# Altium footprint library ESE228M050AN2AA.PcbLib: 1 footprints
Each footprint in its own frame and in the unit in brackets; x right, y up, seen from the top. Pads: shape width x height; smd on the part's side, far side on the other; paste and mask are expansions set on the pad; w line width, h text height; cw(c..) or ccw(c..) is an arc to the next point about the centre after c.
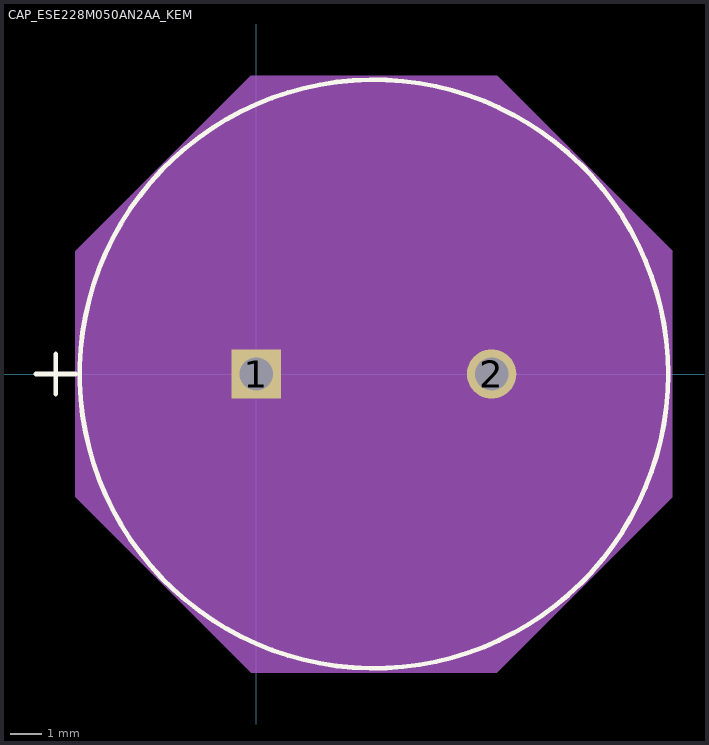
[diagram p0: the footprint, top view; thin cyan lines are the x and y axes]

## CAP_ESE228M050AN2AA_KEM [mil]
pads (2):
  rect 62x62 hole 42 paste-99999 mask+0: 1(0,0)
  round 62 hole 42 paste-99999 mask+0: 2(295.28,0)
Top Overlay:
  circle w6: c147.64,0 r369.17
  lines w6: -276.54,0 -226.54,0 ; -251.54,-25 -251.54,25
  text ".Designator" at 10.14,-25 h50
Mechanical 13:
  circle w1: c147.64,0 r364.17
  lines w1: -276.54,0 -226.54,0 ; -251.54,-25 -251.54,25
  text ".Designator" at 10.14,-25 h50
Mechanical 15:
  region: -226.54,154.07 -6.43,374.17 301.71,374.17 521.81,154.07 521.81,-154.07 301.71,-374.17 -6.43,-374.17 -226.54,-154.07
  lines w1: -226.54,-154.07 -6.43,-374.17 301.71,-374.17 521.81,-154.07 521.81,154.07 301.71,374.17 -6.43,374.17 -226.54,154.07 -226.54,-154.07
3D body "CAP_ESE228M050AN2AA_KEM.step": height 1496.69, standoff -195.98, extent -216.54,-363.97 512.43,363.97